# EAGLE library part 50281-007 (library con-aces-50281-series)
ACES CONNECTORS 50281 SERIES ACES Connecors 50281
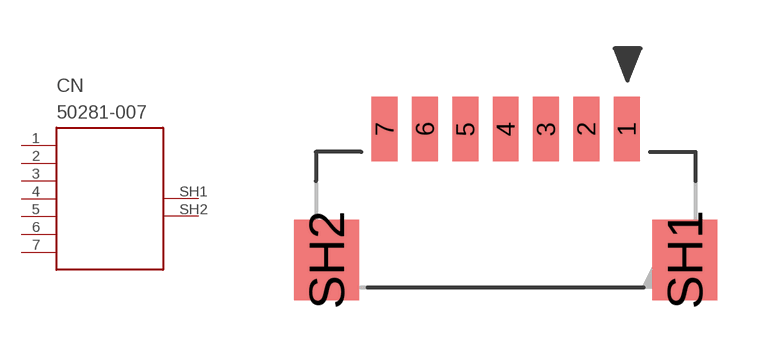
[diagram p3: symbol with the pads of 50281-007; footprint 50281-007]

Designator prefix CN

## 50281-007  [50281-007]
1  1
2  2
3  3
4  4
5  5
6  6
7  7
SH1  SH1
SH2  SH2

## Footprint 50281-007 (pad centres in mm)
smd 0.8 x 2: 1 3.75,1.9; 2 2.5,1.9; 3 1.25,1.9; 4 0,1.9; 5 -1.25,1.9; 6 -2.5,1.9; 7 -3.75,1.9
smd 2 x 2.5: SH1 5.55,-2.15; SH2 -5.55,-2.15